# Altium schematic symbol library GRM21BR71C105KA01L.SchLib: 1 symbol
Pins are listed as number, name and electrical type; pins without a type are passive.

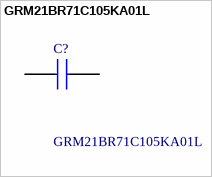
[diagram p0: symbol GRM21BR71C105KA01L]

## GRM21BR71C105KA01L
designator C?
Ceramic  SMT capacitor 1uF 16Vdc Murata 0805 GRM 1uF Ceramic Multilayer Capacitor, 16 V dc, +125C, X7R Dielectric, +/-10% SMD; Manufacturer_Name: Murata Electronics; Geometry.Height: 1.45mm; Mouser Part Number: 81-GRM40X105K16L; Mouser Price/Stock: https://www.mouser.co.uk/ProductDetail/Murata-Electronics/GRM21BR71C105KA01L?qs=WNiIrCCjU2Tw%2F0lnBzRiBw%3D%3D; Manufacturer_Part_Number: GRM21BR71C105KA01L; Datasheet Link: http://www.murata.com/~/media/webrenewal/support/library/catalog/products/capacitor/mlcc/c02e.pdf
footprint CAPC2012X145N
pins: 1, 2